# EAGLE library part HY514400A (library HY514400A)
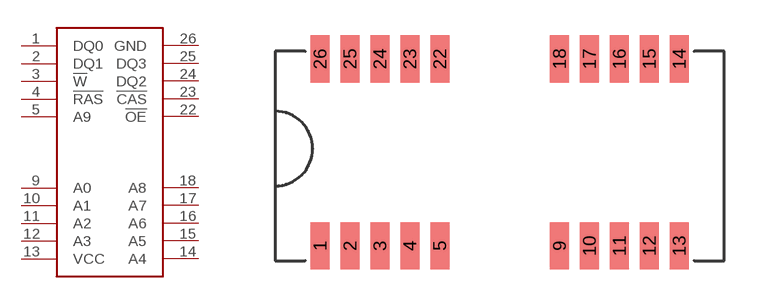
[diagram p0: symbol with the pads of HY514400A; footprint HY514400A]

Designator prefix -

## HY514400A  [HY514400A]
1  DQ0
2  DQ1
3  !W!
4  !RAS!
5  A9
9  A0
10  A1
11  A2
12  A3
13  VCC
14  A4
15  A5
16  A6
17  A7
18  A8
22  !OE!
23  !CAS!
24  DQ2
25  DQ3
26  GND

## Footprint HY514400A (pad centres in mm)
smd 0.8 x 2: 1 -6.35,-3.81; 2 -5.08,-3.81; 3 -3.81,-3.81; 4 -2.54,-3.81; 5 -1.27,-3.81; 9 3.81,-3.81; 10 5.08,-3.81; 11 6.35,-3.81; 12 7.62,-3.81; 13 8.89,-3.81; 14 8.89,4.128; 15 7.62,4.128; 16 6.35,4.128; 17 5.08,4.128; 18 3.81,4.128; 22 -1.27,4.128; 23 -2.54,4.128; 24 -3.81,4.128; 25 -5.08,4.128; 26 -6.35,4.128